# EAGLE library part TB6643KQ (library TB6643KQ)
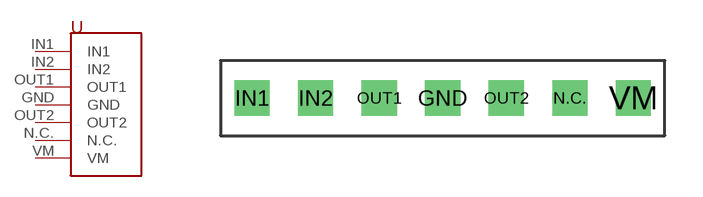
[diagram p0: symbol with the pads of TB6643KQ; footprint TB6643KQ]

Designator prefix -

## TB6643KQ  [TB6643KQ]
GND  GND
IN1  IN1
IN2  IN2
N.C.  N.C.
OUT1  OUT1
OUT2  OUT2
VM  VM

## Footprint TB6643KQ (pad centres in mm)
drill 0.9 square: GND 7.62,0; IN1 0,0; IN2 2.54,0; N.C. 12.7,0; OUT1 5.08,0; OUT2 10.16,0; VM 15.24,0